# EAGLE library part 693021010811 (library SD-kart)
WR-CRD_Micro SIM_Push & Push_w Card Detection_SMT Micro SIM Push & Push Type SMT - with Card Detection - 1.25mm Height Code:Con_I-O_COM_CRD_SIM_Micro_693021010811_693021010811 <http://katalog.we-online.de/media/images/eican/Con_I-O_COM_CRD_SIM_Micro_693021010811_pf2.jpg> Details see: http://katalog.we-online.de/en/em/CRD_MICRO_SIM_PUSH_AND_PULL_CRD_DETECTION_8_PINS/693021010811 Created 2014-12-22, aslant tao 2014 (C) Würth Elektronik
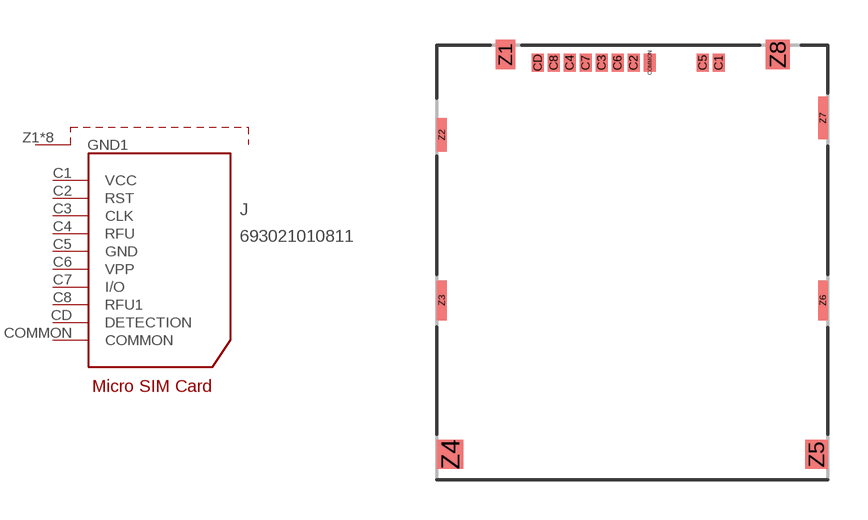
[diagram p143: symbol with the pads of 693021010811; footprint 693021010811]

Designator prefix J

## 693021010811  [693021010811]
C1  VCC
C2  RST
C3  CLK
C4  RFU
C5  GND
C6  VPP
C7  I/O
C8  RFU1
CD  DETECTION
COMMON  COMMON
Z1  GND1
Z2  GND1
Z3  GND1
Z4  GND1
Z5  GND1
Z6  GND1
Z7  GND1
Z8  GND1

## Footprint 693021010811 (pad centres in mm)
smd 0.45 x 0.68: C1 3.25,-0.66; C2 0.05,-0.66; C3 -1.15,-0.66; C4 -2.35,-0.66; C5 2.65,-0.66; C6 -0.55,-0.66; C7 -1.75,-0.66; C8 -2.95,-0.66; CD -3.55,-0.66; COMMON 0.65,-0.66
smd 0.75 x 1.1: Z1 -4.77,-0.35
smd 0.37 x 1.25: Z2 -7.165,-3.375
smd 0.37 x 1.5: Z3 -7.165,-9.6; Z6 7.165,-9.6
smd 1 x 1.1: Z4 -6.85,-15.4
smd 0.85 x 1.1: Z5 6.925,-15.4
smd 0.37 x 1.6: Z7 7.165,-2.74
smd 0.9 x 1.1: Z8 5.46,-0.35